# EAGLE library part 93 (library display-lcd-lxd)
8 Dot-Matrix Digit, .30" (7.62) Multiplexed Display Additional Descriptors: none
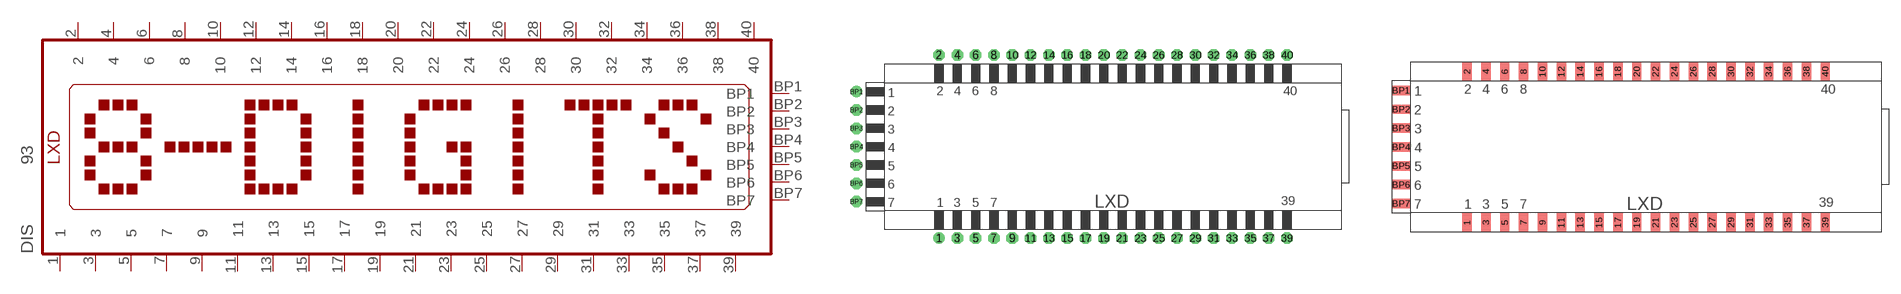
[diagram p37: symbol with the pads of 93-D; footprints 93-D, 93-E]

Designator prefix DIS

## 93DIP  [93-D]
1  1  pas
2  2  pas
3  3  pas
4  4  pas
5  5  pas
6  6  pas
7  7  pas
8  8  pas
9  9  pas
10  10  pas
11  11  pas
12  12  pas
13  13  pas
14  14  pas
15  15  pas
16  16  pas
17  17  pas
18  18  pas
19  19  pas
20  20  pas
21  21  pas
22  22  pas
23  23  pas
24  24  pas
25  25  pas
26  26  pas
27  27  pas
28  28  pas
29  29  pas
30  30  pas
31  31  pas
32  32  pas
33  33  pas
34  34  pas
35  35  pas
36  36  pas
37  37  pas
38  38  pas
39  39  pas
40  40  pas
BP1  BP1  pas
BP2  BP2  pas
BP3  BP3  pas
BP4  BP4  pas
BP5  BP5  pas
BP6  BP6  pas
BP7  BP7  pas

## 93SMD  [93-E]
Pads as for 93-D

## Footprint 93-D (pad centres in mm)
Glass Size: 2.60" x 0.90" &nbsp &nbsp &nbsp &nbsp &nbsp &nbsp &nbsp &nbsp &nbsp (66.04 x 22.86)
drill 0.813 pad 1.6 round: 1 -24.13,-12.7; BP1 -35.56,7.62
drill 0.813 pad 1.6 octagon: 2 -24.13,12.7; 3 -21.59,-12.7; 4 -21.59,12.7; 5 -19.05,-12.7; 6 -19.05,12.7; 7 -16.51,-12.7; 8 -16.51,12.7; 9 -13.97,-12.7; 10 -13.97,12.7; 11 -11.43,-12.7; 12 -11.43,12.7; 13 -8.89,-12.7; 14 -8.89,12.7; 15 -6.35,-12.7; 16 -6.35,12.7; 17 -3.81,-12.7; 18 -3.81,12.7; 19 -1.27,-12.7; 20 -1.27,12.7; 21 1.27,-12.7; 22 1.27,12.7; 23 3.81,-12.7; 24 3.81,12.7; 25 6.35,-12.7; 26 6.35,12.7; 27 8.89,-12.7; 28 8.89,12.7; 29 11.43,-12.7; 30 11.43,12.7; 31 13.97,-12.7; 32 13.97,12.7; 33 16.51,-12.7; 34 16.51,12.7; 35 19.05,-12.7; 36 19.05,12.7; 37 21.59,-12.7; 38 21.59,12.7; 39 24.13,-12.7; 40 24.13,12.7; BP2 -35.56,5.08; BP3 -35.56,2.54; BP4 -35.56,0; BP5 -35.56,-2.54; BP6 -35.56,-5.08; BP7 -35.56,-7.62

## Footprint 93-E (pad centres in mm)
Glass Size: 2.60" x 0.90" &nbsp &nbsp &nbsp &nbsp &nbsp &nbsp &nbsp &nbsp &nbsp (66.04 x 22.86)
smd 1.27 x 2.54: 1 -24.13,-10.16; 2 -24.13,10.16; 3 -21.59,-10.16; 4 -21.59,10.16; 5 -19.05,-10.16; 6 -19.05,10.16; 7 -16.51,-10.16; 8 -16.51,10.16; 9 -13.97,-10.16; 10 -13.97,10.16; 11 -11.43,-10.16; 12 -11.43,10.16; 13 -8.89,-10.16; 14 -8.89,10.16; 15 -6.35,-10.16; 16 -6.35,10.16; 17 -3.81,-10.16; 18 -3.81,10.16; 19 -1.27,-10.16; 20 -1.27,10.16; 21 1.27,-10.16; 22 1.27,10.16; 23 3.81,-10.16; 24 3.81,10.16; 25 6.35,-10.16; 26 6.35,10.16; 27 8.89,-10.16; 28 8.89,10.16; 29 11.43,-10.16; 30 11.43,10.16; 31 13.97,-10.16; 32 13.97,10.16; 33 16.51,-10.16; 34 16.51,10.16; 35 19.05,-10.16; 36 19.05,10.16; 37 21.59,-10.16; 38 21.59,10.16; 39 24.13,-10.16; 40 24.13,10.16
smd 2.54 x 1.27: BP1 -33.02,7.62; BP2 -33.02,5.08; BP3 -33.02,2.54; BP4 -33.02,0; BP5 -33.02,-2.54; BP6 -33.02,-5.08; BP7 -33.02,-7.62